# EAGLE library part STM32STAMP (library sc_usercreated)
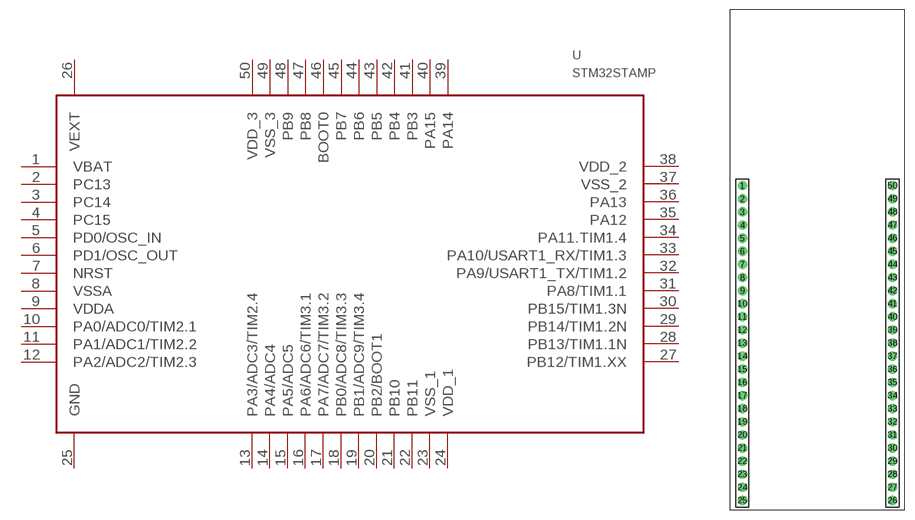
[diagram p21: symbol with the pads of STM32STAMP; footprint STM32STAMP]

Designator prefix U

## STM32STAMP  [STM32STAMP]
1  VBAT
2  PC13
3  PC14
4  PC15
5  PD0/OSC_IN
6  PD1/OSC_OUT
7  NRST
8  VSSA
9  VDDA
10  PA0/ADC0/TIM2.1
11  PA1/ADC1/TIM2.2
12  PA2/ADC2/TIM2.3
13  PA3/ADC3/TIM2.4
14  PA4/ADC4
15  PA5/ADC5
16  PA6/ADC6/TIM3.1
17  PA7/ADC7/TIM3.2
18  PB0/ADC8/TIM3.3
19  PB1/ADC9/TIM3.4
20  PB2/BOOT1
21  PB10
22  PB11
23  VSS_1
24  VDD_1
25  GND
26  VEXT
27  PB12/TIM1.XX
28  PB13/TIM1.1N
29  PB14/TIM1.2N
30  PB15/TIM1.3N
31  PA8/TIM1.1
32  PA9/USART1_TX/TIM1.2
33  PA10/USART1_RX/TIM1.3
34  PA11.TIM1.4
35  PA12
36  PA13
37  VSS_2
38  VDD_2
39  PA14
40  PA15
41  PB3
42  PB4
43  PB5
44  PB6
45  PB7
46  BOOT0
47  PB8
48  PB9
49  VSS_3
50  VDD_3

## Footprint STM32STAMP (pad centres in mm)
drill 0.8 pad 1.422 round: 1 -11.43,17.65; 2 -11.43,15.65; 3 -11.43,13.65; 4 -11.43,11.65; 5 -11.43,9.65; 6 -11.43,7.65; 7 -11.43,5.65; 8 -11.43,3.65; 9 -11.43,1.65; 10 -11.43,-0.35; 11 -11.43,-2.35; 12 -11.43,-4.35; 13 -11.43,-6.35; 14 -11.43,-8.35; 15 -11.43,-10.35; 16 -11.43,-12.35; 17 -11.43,-14.35; 18 -11.43,-16.35; 19 -11.43,-18.35; 20 -11.43,-20.35; 21 -11.43,-22.35; 22 -11.43,-24.35; 23 -11.43,-26.35; 24 -11.43,-28.35; 25 -11.43,-30.35; 26 11.43,-30.35; 27 11.43,-28.35; 28 11.43,-26.35; 29 11.43,-24.35; 30 11.43,-22.35; 31 11.43,-20.35; 32 11.43,-18.35; 33 11.43,-16.35; 34 11.43,-14.35; 35 11.43,-12.35; 36 11.43,-10.35; 37 11.43,-8.35; 38 11.43,-6.35; 39 11.43,-4.35; 40 11.43,-2.35; 41 11.43,-0.35; 42 11.43,1.65; 43 11.43,3.65; 44 11.43,5.65; 45 11.43,7.65; 46 11.43,9.65; 47 11.43,11.65; 48 11.43,13.65; 49 11.43,15.65; 50 11.43,17.65